# Altium schematic symbol library TLP283-4.SCHLIB: 3 symbols
Pins are listed as number, name and electrical type; pins without a type are passive.

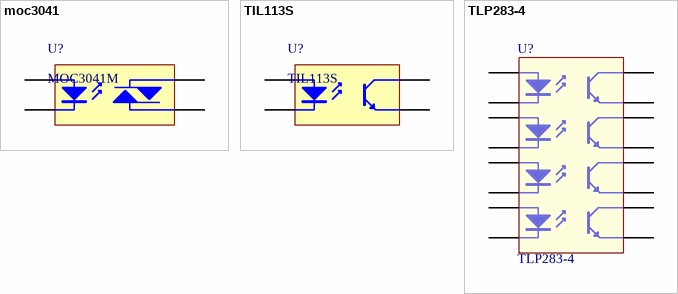
[diagram p0: symbols moc3041 to TLP283-4]

## moc3041
designator U?, comment MOC3041M
Zero-cross Optoisolators Triac Driver Output
footprint til113s (2.54mm pitch)
pins: 1 A, 2 K, 4 E, 6 C

## TIL113S
designator U?
PHOTODARLINGTON OPTOCOUPLERS
footprint til113s (2.54mm pitch)
pins: 1 A, 2 K, 4 E, 5 C

## TLP283-4
designator U?
footprint SOP16
pins: 1 A, 2 K, 3 A, 4 K, 5 A, 6 K, 7 A, 8 K, 9 E, 10 C, 11 E, 12 C, 13 E, 14 C, 15 E, 16 C